# EAGLE library part DS2438Z (library BatteryBoard)
DS2438 Smart Battery Monitor SOIC-8 The DS2438 Smart Battery Monitor provides several functions that are desirable to carry in a battery pack: a means of tagging a battery pack with a unique serial number, a direct-to-digital temperature sensor which eliminates the need for thermistors in the battery pack, an A/D converter which measures the battery voltage and current, an integrated current accumulator which keeps a running total of all current going into and out of the battery, an elapsed time meter, and 40 bytes of nonvolatile EEPROM memory for storage of important parameters such as battery chemistry, battery capacity, charging methodology and assembly date. Information is sent to/from the DS2438 over a 1-Wire interface, so that only one wire (and ground) needs to be connected from a central microprocessor to a DS2438. This means that battery packs need only have three output connectors: battery power, ground, and the 1-Wire interface. Because each DS2438 contains a unique silicon serial number, multiple DS2438s can exist on the same 1-Wire bus. This allows multiple battery packs to be charged or used in the system simultaneously. Applications for the smart battery monitor include portable computers, cellular telephones, and handheld instrumentation battery packs in which it is critical to monitor real-time battery performance. Used in conjunction with a microcontroller in the host system, the DS2438 provides a complete smart battery pack solution that is fully chemistry-independent. The customization for a particular battery chemistry and capacity is realized in the code programmed into the microcontroller and DS2438 EEPROM, and only a software revision is necessary should a designer wish to change battery pack chemistry
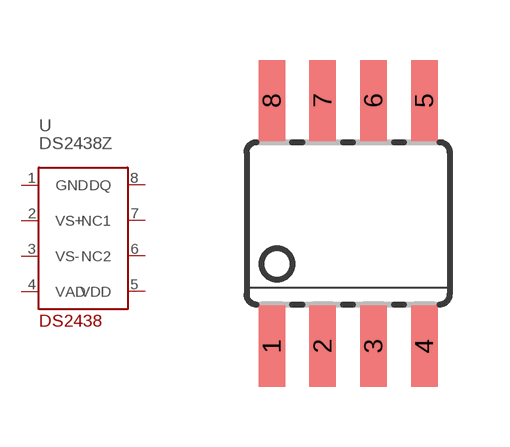
[diagram p0: symbol with the pads of SOIC08; footprint SOIC08]

Designator prefix -

## DS2438Z  [SOIC08]
1  GND  pwr
2  VS+
3  VS-
4  VAD
5  VDD  pwr
6  NC2  nc
7  NC1  nc
8  DQ

## Footprint SOIC08 (pad centres in mm)
Small Outline Package
smd 0.66 x 2.032: 1 -1.905,-3.073; 2 -0.635,-3.073; 3 0.635,-3.073; 4 1.905,-3.073; 5 1.905,3.073; 6 0.635,3.073; 7 -0.635,3.073; 8 -1.905,3.073